# EAGLE library part LT1490 (library Arsenio_Dev)
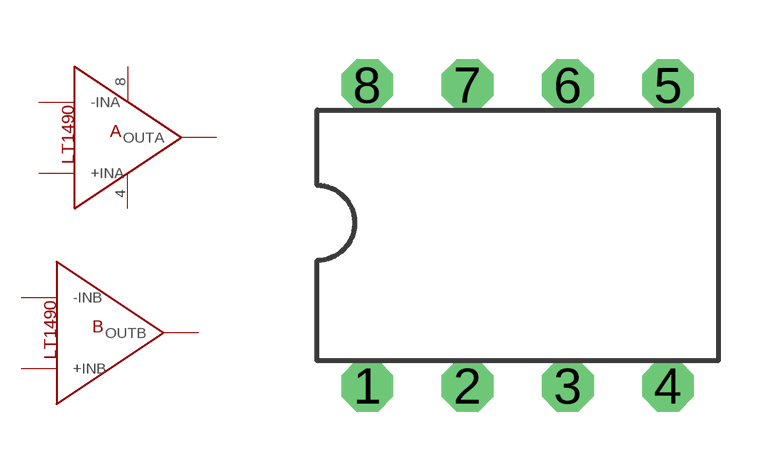
[diagram p3: symbol with the pads of DIP8; footprint DIP8]

Designator prefix -; gates G$1=LT1490 G$2=LT1490B

## LT1490  [DIP8]
1  G$1:OUTA
2  G$1:-INA
3  G$1:+INA
4  G$1:GND
5  G$2:+INB
6  G$2:-INB
7  G$2:OUTB
8  G$1:VCC

## Footprint DIP8 (pad centres in mm)
drill 0.8 octagon: 1 -3.81,-3.81; 2 -1.27,-3.81; 3 1.27,-3.81; 4 3.81,-3.81; 5 3.81,3.81; 6 1.27,3.81; 7 -1.27,3.81; 8 -3.81,3.81